# Altium footprint library 10uf Capacitor.PcbLib: 4 footprints
Each footprint in its own frame and in the unit in brackets; x right, y up, seen from the top. Pads: shape width x height; smd on the part's side, far side on the other; paste and mask are expansions set on the pad; w line width, h text height; cw(c..) or ccw(c..) is an arc to the next point about the centre after c.
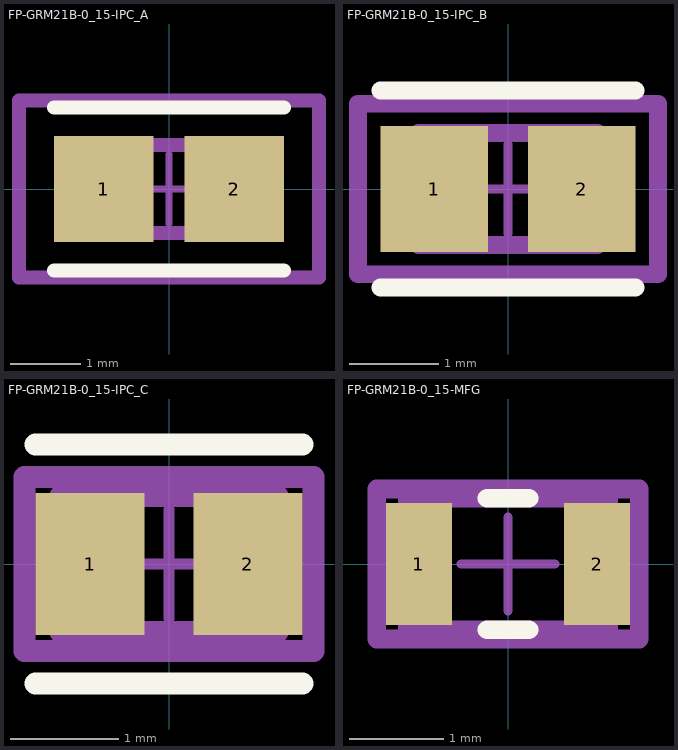
[diagram p0: the footprints below, top view; thin cyan lines are the x and y axes]

## FP-GRM21B-0_15-IPC_A [mm]
pads (2):
  rect 1.406x1.508 smd paste+0 mask+0: 1(-0.926,0) 2(0.926,0)
Top Overlay:
  lines w0.2: -1.629,-1.154 1.629,-1.154 ; -1.629,1.154 1.629,1.154
Top Assembly:
  lines w0.2: -2.129,-1.254 2.129,-1.254 2.129,1.254 -2.129,1.254 -2.129,-1.254
  text ".Designator" at 0,0.188 h1
Top 3D Body:
  lines w0.2: -1,-0.625 1,-0.625 1,0.625 -1,0.625 -1,-0.625
Top Courtyard:
  lines w0.2: -2.129,-1.254 2.129,-1.254 2.129,1.254 -2.129,1.254 -2.129,-1.254
Top Component Center:
  lines w0.1: -0.5,0 0.5,0 ; 0,-0.5 0,0.5
3D body "Cap_Murata_GRM21BC81C106KA73L_eec.STEP": height 0.25, standoff 0, extent -2.129,-1.254 2.129,1.254

## FP-GRM21B-0_15-IPC_B [mm]
pads (2):
  rect 1.206x1.408 smd paste+0 mask+0: 1(-0.826,0) 2(0.826,0)
Top Overlay:
  lines w0.2: -1.429,-1.104 1.429,-1.104 ; -1.429,1.104 1.429,1.104
Top Assembly:
  lines w0.2: -1.679,-0.954 1.679,-0.954 1.679,0.954 -1.679,0.954 -1.679,-0.954
  text ".Designator" at 0,0.188 h1
Top 3D Body:
  lines w0.2: -1,-0.625 1,-0.625 1,0.625 -1,0.625 -1,-0.625
Top Courtyard:
  lines w0.2: -1.679,-0.954 1.679,-0.954 1.679,0.954 -1.679,0.954 -1.679,-0.954
Top Component Center:
  lines w0.1: -0.5,0 0.5,0 ; 0,-0.5 0,0.5
3D body "Cap_Murata_GRM21BC81C106KA73L_eec.STEP": height 0.25, standoff 0, extent -1.679,-0.954 1.679,0.954

## FP-GRM21B-0_15-IPC_C [mm]
pads (2):
  rect 1.006x1.308 smd paste+0 mask+0: 1(-0.726,0) 2(0.726,0)
Top Overlay:
  lines w0.2: -1.229,-1.1 1.229,-1.1 ; -1.229,1.1 1.229,1.1
Top Assembly:
  lines w0.2: -1.329,-0.8 1.329,-0.8 1.329,0.8 -1.329,0.8 -1.329,-0.8
  text ".Designator" at 0,0.188 h1
Top 3D Body:
  lines w0.2: -1,-0.625 1,-0.625 1,0.625 -1,0.625 -1,-0.625
Top Courtyard:
  lines w0.2: -1.329,-0.8 1.329,-0.8 1.329,0.8 -1.329,0.8 -1.329,-0.8
Top Component Center:
  lines w0.1: -0.5,0 0.5,0 ; 0,-0.5 0,0.5
3D body "Cap_Murata_GRM21BC81C106KA73L_eec.STEP": height 0.25, standoff 0, extent -1.329,-0.8 1.329,0.8

## FP-GRM21B-0_15-MFG [mm]
pads (2):
  rect 0.7x1.3 smd paste+0 mask+0: 1(-0.95,0) 2(0.95,0)
Top Overlay:
  lines w0.2: -0.225,-0.7 0.225,-0.7 ; -0.225,0.7 0.225,0.7
Top Assembly:
  lines w0.2: -1.4,-0.8 1.4,-0.8 1.4,0.8 -1.4,0.8 -1.4,-0.8
  text ".Designator" at 0,0.188 h1
Top 3D Body:
  lines w0.2: -1.075,-0.7 1.075,-0.7 1.075,0.7 -1.075,0.7 -1.075,-0.7
Top Courtyard:
  lines w0.2: -1.4,-0.8 1.4,-0.8 1.4,0.8 -1.4,0.8 -1.4,-0.8
Top Component Center:
  lines w0.1: -0.5,0 0.5,0 ; 0,-0.5 0,0.5
3D body "Cap_Murata_GRM21BC81C106KA73L_eec.STEP": height 0.25, standoff 0, extent -1.4,-0.8 1.4,0.8